# EAGLE library part ATF22V10C-15PU (library debauer_ics)
High-performance Electrically Erasable Programmable Logic Device, DIP-24
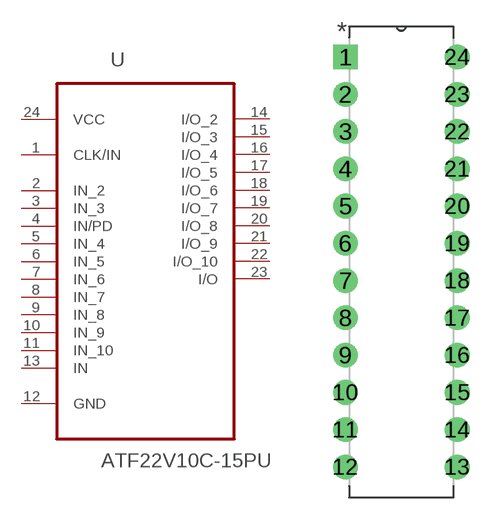
[diagram p0: symbol with the pads of DIP254P762X533-24; footprint DIP254P762X533-24]

Designator prefix U

## ATF22V10C-15PU (MOUNT: tht; MPN: ATF22V10C-15PU; OC_FARNELL: 1551770; OC_NEWARK: 68T2462; PACKAGE: DIP-24; SUPPLIER: ATMEL)  [DIP254P762X533-24]
1  CLK/IN  in
2  IN_2  in
3  IN_3  in
4  IN/PD  in
5  IN_4  in
6  IN_5  in
7  IN_6  in
8  IN_7  in
9  IN_8  in
10  IN_9  in
11  IN_10  in
12  GND  pas
13  IN
14  I/O_2
15  I/O_3
16  I/O_4
17  I/O_5
18  I/O_6
19  I/O_7
20  I/O_8
21  I/O_9
22  I/O_10
23  I/O
24  VCC  pwr

## Footprint DIP254P762X533-24 (pad centres in mm)
drill 1.118 square: 1 -7.62,27.94
drill 1.118: 2 -7.62,25.4; 3 -7.62,22.86; 4 -7.62,20.32; 5 -7.62,17.78; 6 -7.62,15.24; 7 -7.62,12.7; 8 -7.62,10.16; 9 -7.62,7.62; 10 -7.62,5.08; 11 -7.62,2.54; 12 -7.62,0; 13 0,0; 14 0,2.54; 15 0,5.08; 16 0,7.62; 17 0,10.16; 18 0,12.7; 19 0,15.24; 20 0,17.78; 21 0,20.32; 22 0,22.86; 23 0,25.4; 24 0,27.94